# Altium footprint library SparkFun-IC-Microcontroller.PCBLIB: 30 footprints (part 1 of 2)
Each footprint in its own frame and in the unit in brackets; x right, y up, seen from the top. Pads: shape width x height; smd on the part's side, far side on the other; paste and mask are expansions set on the pad; w line width, h text height; cw(c..) or ccw(c..) is an arc to the next point about the centre after c.
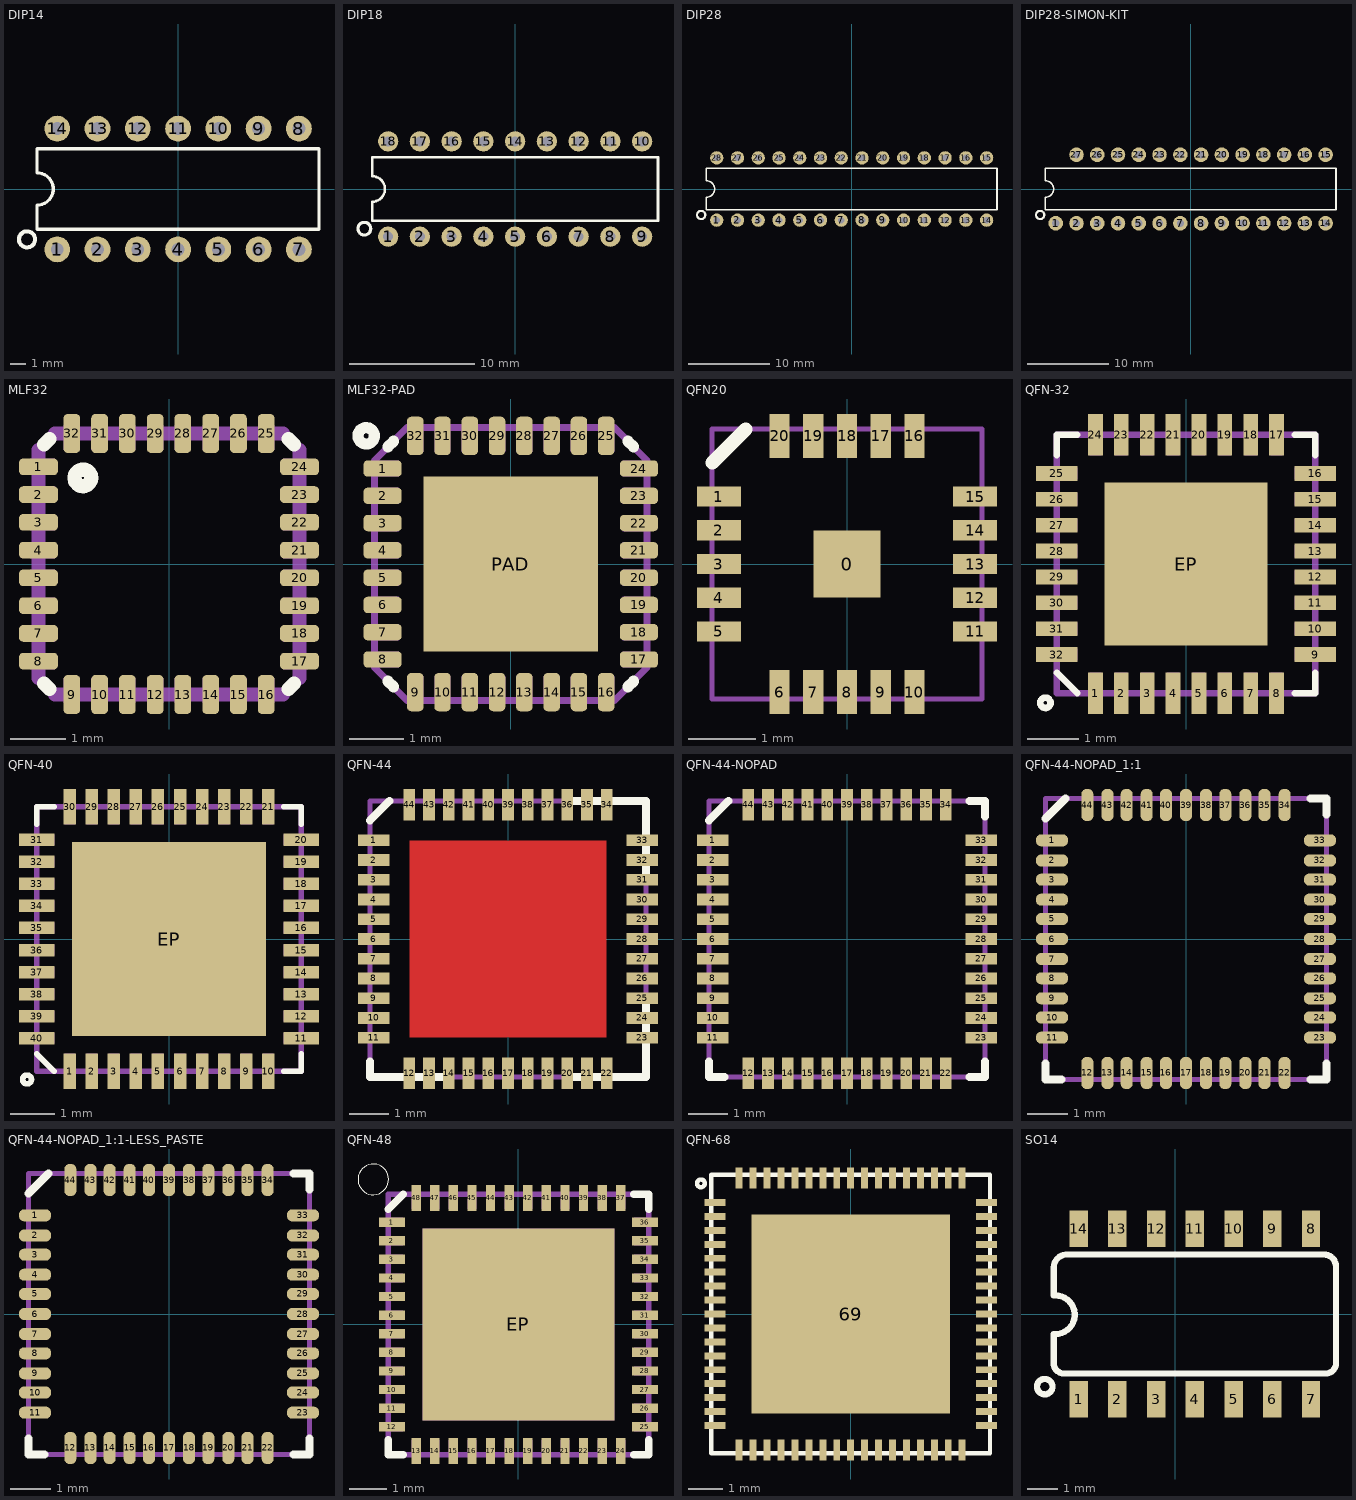
[diagram p0: the footprints below, top view; thin cyan lines are the x and y axes]

## DIP14 [mil]
pads (14):
  round 64 hole 32: 1(-300,-150) 2(-200,-150) 3(-100,-150) 4(0,-150) 5(100,-150) 6(200,-150) 7(300,-150) 8(300,150) 9(200,150) 10(100,150) 11(0,150) 12(-100,150) 13(-200,150) 14(-300,150)
Top Overlay:
  circle w10: c-375,-125 r20
  lines w8: -350,-100 350,-100 350,100 -350,100 -350,40 cw(c-350,0) -350,-40 -350,-100

## DIP18 [mil]
pads (18):
  round 64 hole 32: 1(-400,-150) 2(-300,-150) 3(-200,-150) 4(-100,-150) 5(0,-150) 6(100,-150) 7(200,-150) 8(300,-150) 9(400,-150) 10(400,150) 11(300,150) 12(200,150) 13(100,150) 14(0,150) 15(-100,150) 16(-200,150) 17(-300,150) 18(-400,150)
Top Overlay:
  circle w10: c-475,-125 r20
  lines w8: -450,-100 450,-100 450,100 -450,100 -450,40 cw(c-450,0) -450,-40 -450,-100

## DIP28 [mil]
pads (28):
  round 64 hole 32: 1(-650,-150) 2(-550,-150) 3(-450,-150) 4(-350,-150) 5(-250,-150) 6(-150,-150) 7(-50,-150) 8(50,-150) 9(150,-150) 10(250,-150) 11(350,-150) 12(450,-150) 13(550,-150) 14(650,-150) 15(650,150) 16(550,150) 17(450,150) 18(350,150) 19(250,150) 20(150,150) 21(50,150) 22(-50,150) 23(-150,150) 24(-250,150) 25(-350,150) 26(-450,150) 27(-550,150) 28(-650,150)
Top Overlay:
  circle w10: c-725,-125 r20
  lines w8: -700,-100 700,-100 700,100 -700,100 -700,40 cw(c-700,0) -700,-40 -700,-100

## DIP28-SIMON-KIT [mil]
pads (27):
  round 70 hole 34: 1(-650,-165) 2(-550,-165) 3(-450,-165) 4(-350,-165) 5(-250,-165) 6(-150,-165) 7(-50,-165) 8(50,-165) 9(150,-165) 10(250,-165) 11(350,-165) 12(450,-165) 13(550,-165) 14(650,-165) 15(650,165) 16(550,165) 17(450,165) 18(350,165) 19(250,165) 20(150,165) 21(50,165) 22(-50,165) 23(-150,165) 24(-250,165) 25(-350,165) 26(-450,165) 27(-550,165)
Top Overlay:
  circle w10: c-725,-125 r20
  lines w8: -700,-100 700,-100 700,100 -700,100 -700,40 cw(c-700,0) -700,-40 -700,-100
Top Solder:
  circle w0: c-550,165 r17
  circle w0: c-450,165 r17
  circle w0: c-350,165 r17
  circle w0: c-650,-165 r17
  circle w0: c-550,-165 r17
  circle w0: c-450,-165 r17
  circle w0: c-350,-165 r17
  circle w0: c-250,165 r17
  circle w0: c-150,165 r17
  circle w0: c-50,165 r17
  circle w0: c50,165 r17
  circle w0: c-250,-165 r17
  circle w0: c-150,-165 r17
  circle w0: c-50,-165 r17
  circle w0: c50,-165 r17
  circle w0: c150,165 r17
  circle w0: c250,165 r17
  circle w0: c350,165 r17
  circle w0: c450,165 r17
  circle w0: c150,-165 r17
  circle w0: c250,-165 r17
  circle w0: c350,-165 r17
  circle w0: c450,-165 r17
  circle w0: c550,165 r17
  circle w0: c650,165 r17
  circle w0: c550,-165 r17
  circle w0: c650,-165 r17
Bottom Solder:
  circle w0: c-550,165 r42
  circle w0: c-450,165 r42
  circle w0: c-350,165 r42
  circle w0: c-650,-165 r42
  circle w0: c-550,-165 r42
  circle w0: c-450,-165 r42
  circle w0: c-350,-165 r42
  circle w0: c-250,165 r42
  circle w0: c-150,165 r42
  circle w0: c-50,165 r42
  circle w0: c50,165 r42
  circle w0: c-250,-165 r42
  circle w0: c-150,-165 r42
  circle w0: c-50,-165 r42
  circle w0: c50,-165 r42
  circle w0: c150,165 r42
  circle w0: c250,165 r42
  circle w0: c350,165 r42
  circle w0: c450,165 r42
  circle w0: c150,-165 r42
  circle w0: c250,-165 r42
  circle w0: c350,-165 r42
  circle w0: c450,-165 r42
  circle w0: c550,165 r42
  circle w0: c650,165 r42
  circle w0: c550,-165 r42
  circle w0: c650,-165 r42

## MLF32 [mm]
pads (32):
  rrect50% 0.7x0.3 smd: 1(-2.35,1.75) 2(-2.35,1.25) 3(-2.35,0.75) 4(-2.35,0.25) 5(-2.35,-0.25) 6(-2.35,-0.75) 7(-2.35,-1.25) 8(-2.35,-1.75) 17(2.35,-1.75) 18(2.35,-1.25) 19(2.35,-0.75) 20(2.35,-0.25) 21(2.35,0.25) 22(2.35,0.75) 23(2.35,1.25) 24(2.35,1.75)
  rrect50% 0.3x0.7 smd: 9(-1.75,-2.35) 10(-1.25,-2.35) 11(-0.75,-2.35) 12(-0.25,-2.35) 13(0.25,-2.35) 14(0.75,-2.35) 15(1.25,-2.35) 16(1.75,-2.35) 25(1.75,2.35) 26(1.25,2.35) 27(0.75,2.35) 28(0.25,2.35) 29(-0.25,2.35) 30(-0.75,2.35) 31(-1.25,2.35) 32(-1.75,2.35)
Top Overlay:
  circle w0.254: c-1.55,1.55 r0.15
  lines w0.254: -2.25,-2.15 -2.15,-2.25 ; -2.25,2.15 -2.15,2.25 ; 2.15,-2.25 2.25,-2.15 ; 2.15,2.25 2.25,2.15
Mechanical 16:
  rectangle: -2.5,1.6 -2.05,1.9
  rectangle: -2.5,1.1 -2.05,1.4
  rectangle: -2.5,0.6 -2.05,0.9
  rectangle: -2.5,0.1 -2.05,0.4
  rectangle: -2.5,-0.4 -2.05,-0.1
  rectangle: -2.5,-0.9 -2.05,-0.6
  rectangle: -2.5,-1.4 -2.05,-1.1
  rectangle: -2.5,-1.9 -2.05,-1.6
  rectangle: -1.9,-2.5 -1.6,-2.05
  rectangle: -1.4,-2.5 -1.1,-2.05
  rectangle: -0.9,-2.5 -0.6,-2.05
  rectangle: -0.4,-2.5 -0.1,-2.05
  rectangle: 0.1,-2.5 0.4,-2.05
  rectangle: 0.6,-2.5 0.9,-2.05
  rectangle: 1.1,-2.5 1.4,-2.05
  rectangle: 1.6,-2.5 1.9,-2.05
  rectangle: 2.05,-1.9 2.5,-1.6
  rectangle: 2.05,-1.4 2.5,-1.1
  rectangle: 2.05,-0.9 2.5,-0.6
  rectangle: 2.05,-0.4 2.5,-0.1
  rectangle: 2.05,0.1 2.5,0.4
  rectangle: 2.05,0.6 2.5,0.9
  rectangle: 2.05,1.1 2.5,1.4
  rectangle: 2.05,1.6 2.5,1.9
  rectangle: 1.6,2.05 1.9,2.5
  rectangle: 1.1,2.05 1.4,2.5
  rectangle: 0.6,2.05 0.9,2.5
  rectangle: 0.1,2.05 0.4,2.5
  rectangle: -0.4,2.05 -0.1,2.5
  rectangle: -0.9,2.05 -0.6,2.5
  rectangle: -1.4,2.05 -1.1,2.5
  rectangle: -1.9,2.05 -1.6,2.5
  lines w0.254: -2.35,-2.05 -2.35,2.05 ; -2.05,-2.35 2.05,-2.35 ; -2.05,2.35 2.05,2.35 ; 2.35,-2.05 2.35,2.05

## MLF32-PAD [mm]
pads (33):
  rrect50% 0.7x0.3 smd: 1(-2.35,1.75) 2(-2.35,1.25) 3(-2.35,0.75) 4(-2.35,0.25) 5(-2.35,-0.25) 6(-2.35,-0.75) 7(-2.35,-1.25) 8(-2.35,-1.75) 17(2.35,-1.75) 18(2.35,-1.25) 19(2.35,-0.75) 20(2.35,-0.25) 21(2.35,0.25) 22(2.35,0.75) 23(2.35,1.25) 24(2.35,1.75)
  rrect50% 0.3x0.7 smd: 9(-1.75,-2.35) 10(-1.25,-2.35) 11(-0.75,-2.35) 12(-0.25,-2.35) 13(0.25,-2.35) 14(0.75,-2.35) 15(1.25,-2.35) 16(1.75,-2.35) 25(1.75,2.35) 26(1.25,2.35) 27(0.75,2.35) 28(0.25,2.35) 29(-0.25,2.35) 30(-0.75,2.35) 31(-1.25,2.35) 32(-1.75,2.35)
  rect 3.2x3.2 smd: PAD(0,0)
Top Overlay:
  circle w0.203: c-2.65,2.35 r0.15
  lines w0.203: -2.25,-2.15 -2.15,-2.25 ; -2.25,2.15 -2.15,2.25 ; 2.15,-2.25 2.25,-2.15 ; 2.15,2.25 2.25,2.15
Top Paste:
  rectangle: -1.2,0.25 -0.25,1.2
  rectangle: 0.25,0.25 1.2,1.2
  rectangle: 0.25,-1.2 1.2,-0.25
  rectangle: -1.2,-1.2 -0.25,-0.25
Mechanical 16:
  rectangle: -2.5,1.6 -2.05,1.9
  rectangle: -2.5,1.1 -2.05,1.4
  rectangle: -2.5,0.6 -2.05,0.9
  rectangle: -2.5,0.1 -2.05,0.4
  rectangle: -2.5,-0.4 -2.05,-0.1
  rectangle: -2.5,-0.9 -2.05,-0.6
  rectangle: -2.5,-1.4 -2.05,-1.1
  rectangle: -2.5,-1.9 -2.05,-1.6
  rectangle: -1.9,-2.5 -1.6,-2.05
  rectangle: -1.4,-2.5 -1.1,-2.05
  rectangle: -0.9,-2.5 -0.6,-2.05
  rectangle: -0.4,-2.5 -0.1,-2.05
  rectangle: 0.1,-2.5 0.4,-2.05
  rectangle: 0.6,-2.5 0.9,-2.05
  rectangle: 1.1,-2.5 1.4,-2.05
  rectangle: 1.6,-2.5 1.9,-2.05
  rectangle: 2.05,-1.9 2.5,-1.6
  rectangle: 2.05,-1.4 2.5,-1.1
  rectangle: 2.05,-0.9 2.5,-0.6
  rectangle: 2.05,-0.4 2.5,-0.1
  rectangle: 2.05,0.1 2.5,0.4
  rectangle: 2.05,0.6 2.5,0.9
  rectangle: 2.05,1.1 2.5,1.4
  rectangle: 2.05,1.6 2.5,1.9
  rectangle: 1.6,2.05 1.9,2.5
  rectangle: 1.1,2.05 1.4,2.5
  rectangle: 0.6,2.05 0.9,2.5
  rectangle: 0.1,2.05 0.4,2.5
  rectangle: -0.4,2.05 -0.1,2.5
  rectangle: -0.9,2.05 -0.6,2.5
  rectangle: -1.4,2.05 -1.1,2.5
  rectangle: -1.9,2.05 -1.6,2.5
  lines w0.127: -2.5,-1.9 -1.9,-2.5 1.9,-2.5 2.5,-1.9 2.5,1.9 1.9,2.5 -1.9,2.5 -2.5,1.9 -2.5,-1.9

## QFN20 [mm]
pads (21):
  rect 1x1 smd: 0(0,0)
  rect 0.65x0.3 smd: 1(-1.9,1) 2(-1.9,0.5) 3(-1.9,0) 4(-1.9,-0.5) 5(-1.9,-1) 11(1.9,-1) 12(1.9,-0.5) 13(1.9,0) 14(1.9,0.5) 15(1.9,1)
  rect 0.3x0.65 smd: 6(-1,-1.9) 7(-0.5,-1.9) 8(0,-1.9) 9(0.5,-1.9) 10(1,-1.9) 16(1,1.9) 17(0.5,1.9) 18(0,1.9) 19(-0.5,1.9) 20(-1,1.9)
Top Overlay:
  lines w0.203: -2,1.5 -1.5,2
Top Paste:
  rectangle: -0.25,-0.25 0.25,0.25
  rectangle: -2.095,0.902 -1.613,1.105
  rectangle: -2.095,0.394 -1.613,0.597
  rectangle: -2.095,-0.102 -1.613,0.102
  rectangle: -2.095,-0.597 -1.613,-0.394
  rectangle: -2.095,-1.105 -1.613,-0.902
  rectangle: 1.613,0.902 2.095,1.105
  rectangle: 1.613,0.394 2.095,0.597
  rectangle: 1.613,-0.102 2.095,0.102
  rectangle: 1.613,-0.597 2.095,-0.394
  rectangle: 1.613,-1.105 2.095,-0.902
  region: -0.902,1.613 -0.902,2.095 -1.105,2.095 -1.105,1.613
  region: -0.394,1.613 -0.394,2.095 -0.597,2.095 -0.597,1.613
  region: 0.102,1.613 0.102,2.095 -0.102,2.095 -0.102,1.613
  region: 0.597,1.613 0.597,2.095 0.394,2.095 0.394,1.613
  region: 1.105,1.613 1.105,2.095 0.902,2.095 0.902,1.613
  region: -0.902,-2.095 -0.902,-1.613 -1.105,-1.613 -1.105,-2.095
  region: -0.394,-2.095 -0.394,-1.613 -0.597,-1.613 -0.597,-2.095
  region: 0.102,-2.095 0.102,-1.613 -0.102,-1.613 -0.102,-2.095
  region: 0.597,-2.095 0.597,-1.613 0.394,-1.613 0.394,-2.095
  region: 1.105,-2.095 1.105,-1.613 0.902,-1.613 0.902,-2.095
Mechanical 16:
  lines w0.076: -2,-2 2,-2 2,2 -2,2 -2,-2

## QFN-32 [mil]
pads (33):
  rect 11.2x31.5 smd: 1(-68.9,-98.43) 2(-49.21,-98.43) 3(-29.53,-98.43) 4(-9.84,-98.43) 5(9.84,-98.43) 6(29.53,-98.43) 7(49.21,-98.43) 8(68.9,-98.43) 17(68.9,98.43) 18(49.21,98.43) 19(29.53,98.43) 20(9.84,98.43) 21(-9.84,98.43) 22(-29.53,98.43) 23(-49.21,98.43) 24(-68.9,98.43)
  rect 31.5x11.2 smd: 9(98.43,-68.9) 10(98.43,-49.21) 11(98.43,-29.53) 12(98.43,-9.84) 13(98.43,9.84) 14(98.43,29.53) 15(98.43,49.21) 16(98.43,68.9) 25(-98.43,68.9) 26(-98.43,49.21) 27(-98.43,29.53) 28(-98.43,9.84) 29(-98.43,-9.84) 30(-98.43,-29.53) 31(-98.43,-49.21) 32(-98.43,-68.9)
  rect 124.02x124.02 smd: EP(0,0)
Top Overlay:
  circle w5: c-107,-105.66 r3.94
  lines w5: -98.43,-82.68 -82.68,-98.43 ; -98.43,82.68 -98.43,98.43 -82.68,98.43 ; 82.68,-98.43 98.43,-98.43 98.43,-82.68 ; 82.68,98.43 98.43,98.43 98.43,82.68
Top Paste:
  rectangle: -57.09,5.91 -5.91,57.09
  region: 5.91,57.09 5.91,5.91 57.09,5.91 57.09,57.09
  region: -5.91,-57.09 -5.91,-5.91 -57.09,-5.91 -57.09,-57.09
  region: 57.09,-5.91 5.91,-5.91 5.91,-57.09 57.09,-57.09
Mechanical 16:
  rectangle: -98.43,5.12 -82.68,14.57
  rectangle: -98.43,-14.57 -82.68,-5.12
  rectangle: -98.43,-34.25 -82.68,-24.8
  rectangle: -98.43,-53.94 -82.68,-44.49
  rectangle: -98.43,-73.62 -82.68,-64.17
  rectangle: -98.43,24.8 -82.68,34.25
  rectangle: -98.43,44.49 -82.68,53.94
  rectangle: -98.43,64.17 -82.68,73.62
  region: 5.12,98.43 5.12,82.68 14.57,82.68 14.57,98.43
  region: -14.57,98.43 -14.57,82.68 -5.12,82.68 -5.12,98.43
  region: -34.25,98.43 -34.25,82.68 -24.8,82.68 -24.8,98.43
  region: -53.94,98.43 -53.94,82.68 -44.49,82.68 -44.49,98.43
  region: -73.62,98.43 -73.62,82.68 -64.17,82.68 -64.17,98.43
  region: 24.8,98.43 24.8,82.68 34.25,82.68 34.25,98.43
  region: 44.49,98.43 44.49,82.68 53.94,82.68 53.94,98.43
  region: 64.17,98.43 64.17,82.68 73.62,82.68 73.62,98.43
  region: -5.12,-98.43 -5.12,-82.68 -14.57,-82.68 -14.57,-98.43
  region: 14.57,-98.43 14.57,-82.68 5.12,-82.68 5.12,-98.43
  region: 34.25,-98.43 34.25,-82.68 24.8,-82.68 24.8,-98.43
  region: 53.94,-98.43 53.94,-82.68 44.49,-82.68 44.49,-98.43
  region: 73.62,-98.43 73.62,-82.68 64.17,-82.68 64.17,-98.43
  region: -24.8,-98.43 -24.8,-82.68 -34.25,-82.68 -34.25,-98.43
  region: -44.49,-98.43 -44.49,-82.68 -53.94,-82.68 -53.94,-98.43
  region: -64.17,-98.43 -64.17,-82.68 -73.62,-82.68 -73.62,-98.43
  region: 98.43,-5.12 82.68,-5.12 82.68,-14.57 98.43,-14.57
  region: 98.43,14.57 82.68,14.57 82.68,5.12 98.43,5.12
  region: 98.43,34.25 82.68,34.25 82.68,24.8 98.43,24.8
  region: 98.43,53.94 82.68,53.94 82.68,44.49 98.43,44.49
  region: 98.43,73.62 82.68,73.62 82.68,64.17 98.43,64.17
  region: 98.43,-24.8 82.68,-24.8 82.68,-34.25 98.43,-34.25
  region: 98.43,-44.49 82.68,-44.49 82.68,-53.94 98.43,-53.94
  region: 98.43,-64.17 82.68,-64.17 82.68,-73.62 98.43,-73.62
  lines w5: -98.43,-98.43 98.43,-98.43 98.43,98.43 -98.43,98.43 -98.43,-98.43

## QFN-40 [mm]
pads (41):
  rect 0.284x0.8 smd: 1(-2.25,-3) 2(-1.75,-3) 3(-1.25,-3) 4(-0.75,-3) 5(-0.25,-3) 6(0.25,-3) 7(0.75,-3) 8(1.25,-3) 9(1.75,-3) 10(2.25,-3) 21(2.25,3) 22(1.75,3) 23(1.25,3) 24(0.75,3) 25(0.25,3) 26(-0.25,3) 27(-0.75,3) 28(-1.25,3) 29(-1.75,3) 30(-2.25,3)
  rect 0.8x0.284 smd: 11(3,-2.25) 12(3,-1.75) 13(3,-1.25) 14(3,-0.75) 15(3,-0.25) 16(3,0.25) 17(3,0.75) 18(3,1.25) 19(3,1.75) 20(3,2.25) 31(-3,2.25) 32(-3,1.75) 33(-3,1.25) 34(-3,0.75) 35(-3,0.25) 36(-3,-0.25) 37(-3,-0.75) 38(-3,-1.25) 39(-3,-1.75) 40(-3,-2.25)
  rect 4.4x4.4 smd: EP(0,0)
Top Overlay:
  circle w0.127: c-3.218,-3.184 r0.1
  lines w0.127: -3,-2.6 -2.6,-3 ; -3,2.6 -3,3 -2.6,3 ; 2.6,-3 3,-3 3,-2.6 ; 2.6,3 3,3 3,2.6
Top Paste:
  circle w0: c0.85,0.85 r0.762
  circle w0: c-0.85,0.85 r0.762
  circle w0: c-0.85,-0.85 r0.762
  circle w0: c0.85,-0.85 r0.762
  rectangle: -2.368,-3.342 -2.139,-2.796
  rectangle: -1.867,-3.342 -1.639,-2.796
  rectangle: -1.368,-3.342 -1.139,-2.796
  rectangle: -0.867,-3.342 -0.639,-2.796
  rectangle: -0.368,-3.342 -0.139,-2.796
  rectangle: 0.133,-3.342 0.361,-2.796
  rectangle: 0.632,-3.342 0.861,-2.796
  rectangle: 1.133,-3.342 1.361,-2.796
  rectangle: 1.632,-3.342 1.861,-2.796
  rectangle: 2.133,-3.342 2.361,-2.796
  region: 3.342,-2.368 3.342,-2.139 2.796,-2.139 2.796,-2.368
  region: 3.342,-1.867 3.342,-1.639 2.796,-1.639 2.796,-1.867
  region: 3.342,-1.368 3.342,-1.139 2.796,-1.139 2.796,-1.368
  region: 3.342,-0.867 3.342,-0.639 2.796,-0.639 2.796,-0.867
  region: 3.342,-0.368 3.342,-0.139 2.796,-0.139 2.796,-0.368
  region: 3.342,0.133 3.342,0.361 2.796,0.361 2.796,0.133
  region: 3.342,0.632 3.342,0.861 2.796,0.861 2.796,0.632
  region: 3.342,1.133 3.342,1.361 2.796,1.361 2.796,1.133
  region: 3.342,1.632 3.342,1.861 2.796,1.861 2.796,1.632
  region: 3.342,2.133 3.342,2.361 2.796,2.361 2.796,2.133
  region: 2.368,3.342 2.139,3.342 2.139,2.796 2.368,2.796
  region: 1.867,3.342 1.639,3.342 1.639,2.796 1.867,2.796
  region: 1.368,3.342 1.139,3.342 1.139,2.796 1.368,2.796
  region: 0.867,3.342 0.639,3.342 0.639,2.796 0.867,2.796
  region: 0.368,3.342 0.139,3.342 0.139,2.796 0.368,2.796
  region: -0.133,3.342 -0.361,3.342 -0.361,2.796 -0.133,2.796
  region: -0.632,3.342 -0.861,3.342 -0.861,2.796 -0.632,2.796
  region: -1.133,3.342 -1.361,3.342 -1.361,2.796 -1.133,2.796
  region: -1.632,3.342 -1.861,3.342 -1.861,2.796 -1.632,2.796
  region: -2.133,3.342 -2.361,3.342 -2.361,2.796 -2.133,2.796
  region: -3.342,2.368 -3.342,2.139 -2.796,2.139 -2.796,2.368
  region: -3.342,1.867 -3.342,1.639 -2.796,1.639 -2.796,1.867
  region: -3.342,1.368 -3.342,1.139 -2.796,1.139 -2.796,1.368
  region: -3.342,0.867 -3.342,0.639 -2.796,0.639 -2.796,0.867
  region: -3.342,0.368 -3.342,0.139 -2.796,0.139 -2.796,0.368
  region: -3.342,-0.133 -3.342,-0.361 -2.796,-0.361 -2.796,-0.133
  region: -3.342,-0.632 -3.342,-0.861 -2.796,-0.861 -2.796,-0.632
  region: -3.342,-1.133 -3.342,-1.361 -2.796,-1.361 -2.796,-1.133
  region: -3.342,-1.632 -3.342,-1.861 -2.796,-1.861 -2.796,-1.632
  region: -3.342,-2.133 -3.342,-2.361 -2.796,-2.361 -2.796,-2.133
Mechanical 16:
  rectangle: -3,-0.37 -2.6,-0.13
  rectangle: -3,-0.87 -2.6,-0.63
  rectangle: -3,-1.37 -2.6,-1.13
  rectangle: -3,-1.87 -2.6,-1.63
  rectangle: -3,-2.37 -2.6,-2.13
  rectangle: -3,0.13 -2.6,0.37
  rectangle: -3,0.63 -2.6,0.87
  rectangle: -3,1.13 -2.6,1.37
  region: -0.37,3 -0.37,2.6 -0.13,2.6 -0.13,3
  region: -0.87,3 -0.87,2.6 -0.63,2.6 -0.63,3
  region: -1.37,3 -1.37,2.6 -1.13,2.6 -1.13,3
  region: -1.87,3 -1.87,2.6 -1.63,2.6 -1.63,3
  region: -2.37,3 -2.37,2.6 -2.13,2.6 -2.13,3
  region: 0.13,3 0.13,2.6 0.37,2.6 0.37,3
  region: 0.63,3 0.63,2.6 0.87,2.6 0.87,3
  region: 1.13,3 1.13,2.6 1.37,2.6 1.37,3
  region: 0.37,-3 0.37,-2.6 0.13,-2.6 0.13,-3
  region: 0.87,-3 0.87,-2.6 0.63,-2.6 0.63,-3
  region: 1.37,-3 1.37,-2.6 1.13,-2.6 1.13,-3
  region: 1.87,-3 1.87,-2.6 1.63,-2.6 1.63,-3
  region: 2.37,-3 2.37,-2.6 2.13,-2.6 2.13,-3
  region: -0.13,-3 -0.13,-2.6 -0.37,-2.6 -0.37,-3
  region: -0.63,-3 -0.63,-2.6 -0.87,-2.6 -0.87,-3
  region: -1.13,-3 -1.13,-2.6 -1.37,-2.6 -1.37,-3
  region: 1.63,3 1.63,2.6 1.87,2.6 1.87,3
  region: -1.87,-2.6 -1.87,-3 -1.63,-3 -1.63,-2.6
  region: -2.37,-2.6 -2.37,-3 -2.13,-3 -2.13,-2.6
  region: 3,-1.63 2.6,-1.63 2.6,-1.87 3,-1.87
  region: 3,-1.13 2.6,-1.13 2.6,-1.37 3,-1.37
  region: 2.13,3 2.13,2.6 2.37,2.6 2.37,3
  region: -2.6,1.87 -3,1.87 -3,1.63 -2.6,1.63
  region: 3,-2.13 2.6,-2.13 2.6,-2.37 3,-2.37
  region: 3,0.37 2.6,0.37 2.6,0.13 3,0.13
  region: 3,0.87 2.6,0.87 2.6,0.63 3,0.63
  region: 3,1.37 2.6,1.37 2.6,1.13 3,1.13
  region: 3,1.87 2.6,1.87 2.6,1.63 3,1.63
  region: 3,2.37 2.6,2.37 2.6,2.13 3,2.13
  region: 3,-0.13 2.6,-0.13 2.6,-0.37 3,-0.37
  region: 3,-0.63 2.6,-0.63 2.6,-0.87 3,-0.87
  region: -2.6,2.37 -3,2.37 -3,2.13 -2.6,2.13
  lines w0.127: -3,-3 3,-3 3,3 -3,3 -3,-3

## QFN-44 [mil]
pads (44):
  rect 31.5x11.81 smd: 1(-133.86,98.43) 2(-133.86,78.74) 3(-133.86,59.06) 4(-133.86,39.37) 5(-133.86,19.69) 6(-133.86,0) 7(-133.86,-19.69) 8(-133.86,-39.37) 9(-133.86,-59.06) 10(-133.86,-78.74) 11(-133.86,-98.43) 23(133.86,-98.43) 24(133.86,-78.74) 25(133.86,-59.06) 26(133.86,-39.37) 27(133.86,-19.69) 28(133.86,0) 29(133.86,19.69) 30(133.86,39.37) 31(133.86,59.06) 32(133.86,78.74) 33(133.86,98.43)
  rect 11.81x31.5 smd: 12(-98.43,-133.86) 13(-78.74,-133.86) 14(-59.06,-133.86) 15(-39.37,-133.86) 16(-19.69,-133.86) 17(0,-133.86) 18(19.69,-133.86) 19(39.37,-133.86) 20(59.06,-133.86) 21(78.74,-133.86) 22(98.43,-133.86) 34(98.43,133.86) 35(78.74,133.86) 36(59.06,133.86) 37(39.37,133.86) 38(19.69,133.86) 39(0,133.86) 40(-19.69,133.86) 41(-39.37,133.86) 42(-59.06,133.86) 43(-78.74,133.86) 44(-98.43,133.86)
Top Layer:
  rectangle: -98.43,-98.43 98.43,98.43
Top Overlay:
  lines w8: -137.8,-122.05 -137.8,-137.8 -64.96,-137.8 ; -137.8,118.11 -118.11,137.8 ; 64.96,-137.8 137.8,-137.8 137.8,-64.96 ; 64.96,137.8 137.8,137.8 137.8,64.96
Top Solder:
  rectangle: -19.69,-19.69 19.69,19.69
Mechanical 16:
  lines w5: -137.8,-137.8 -137.8,137.8 137.8,137.8 137.8,-137.8 -133.86,-137.8

## QFN-44-NOPAD [mil]
pads (44):
  rect 31.5x11.81 smd: 1(-133.86,98.43) 2(-133.86,78.74) 3(-133.86,59.06) 4(-133.86,39.37) 5(-133.86,19.69) 6(-133.86,0) 7(-133.86,-19.69) 8(-133.86,-39.37) 9(-133.86,-59.06) 10(-133.86,-78.74) 11(-133.86,-98.43) 23(133.86,-98.43) 24(133.86,-78.74) 25(133.86,-59.06) 26(133.86,-39.37) 27(133.86,-19.69) 28(133.86,0) 29(133.86,19.69) 30(133.86,39.37) 31(133.86,59.06) 32(133.86,78.74) 33(133.86,98.43)
  rect 11.81x31.5 smd: 12(-98.43,-133.86) 13(-78.74,-133.86) 14(-59.06,-133.86) 15(-39.37,-133.86) 16(-19.69,-133.86) 17(0,-133.86) 18(19.69,-133.86) 19(39.37,-133.86) 20(59.06,-133.86) 21(78.74,-133.86) 22(98.43,-133.86) 34(98.43,133.86) 35(78.74,133.86) 36(59.06,133.86) 37(39.37,133.86) 38(19.69,133.86) 39(0,133.86) 40(-19.69,133.86) 41(-39.37,133.86) 42(-59.06,133.86) 43(-78.74,133.86) 44(-98.43,133.86)
Top Overlay:
  lines w8: -137.8,-122.05 -137.8,-137.8 -122.05,-137.8 ; -137.8,118.11 -118.11,137.8 ; 122.05,-137.8 137.8,-137.8 137.8,-122.05 ; 122.05,137.8 137.8,137.8 137.8,122.05
Mechanical 16:
  lines w5: -137.8,-137.8 -137.8,137.8 137.8,137.8 137.8,-137.8 -133.86,-137.8

## QFN-44-NOPAD_1:1 [mil]
pads (44):
  rrect85% 31.5x11.81 smd: 1(-131.36,96.76) 2(-131.36,77.08) 3(-131.36,58.22) 4(-131.36,38.54) 5(-131.36,19.69) 6(-131.36,0) 7(-131.36,-19.69) 8(-131.36,-38.54) 9(-131.36,-58.22) 10(-131.36,-77.08) 11(-131.36,-96.76) 23(131.36,-96.76) 24(131.36,-77.08) 25(131.36,-58.22) 26(131.36,-38.54) 27(131.36,-19.69) 28(131.36,0) 29(131.36,19.69) 30(131.36,38.54) 31(131.36,58.22) 32(131.36,77.08) 33(131.36,96.76)
  rrect85% 11.81x31.5 smd: 12(-96.76,-131.36) 13(-77.08,-131.36) 14(-58.22,-131.36) 15(-38.54,-131.36) 16(-19.69,-131.36) 17(0,-131.36) 18(19.69,-131.36) 19(38.54,-131.36) 20(58.22,-131.36) 21(77.08,-131.36) 22(96.76,-131.36) 34(96.76,131.36) 35(77.08,131.36) 36(58.22,131.36) 37(38.54,131.36) 38(19.69,131.36) 39(0,131.36) 40(-19.69,131.36) 41(-38.54,131.36) 42(-58.22,131.36) 43(-77.08,131.36) 44(-96.76,131.36)
Top Overlay:
  lines w8: -137.8,-122.05 -137.8,-137.8 -122.05,-137.8 ; -137.8,118.11 -118.11,137.8 ; 122.05,-137.8 137.8,-137.8 137.8,-122.05 ; 122.05,137.8 137.8,137.8 137.8,122.05
Mechanical 16:
  lines w5: -137.8,-137.8 -137.8,137.8 137.8,137.8 137.8,-137.8 -133.86,-137.8

## QFN-44-NOPAD_1:1-LESS_PASTE [mil]
pads (44):
  rrect85% 31.5x11.81 smd: 1(-131.36,96.76) 2(-131.36,77.08) 3(-131.36,58.22) 4(-131.36,38.54) 5(-131.36,19.69) 6(-131.36,0) 7(-131.36,-19.69) 8(-131.36,-38.54) 9(-131.36,-58.22) 10(-131.36,-77.08) 11(-131.36,-96.76) 23(131.36,-96.76) 24(131.36,-77.08) 25(131.36,-58.22) 26(131.36,-38.54) 27(131.36,-19.69) 28(131.36,0) 29(131.36,19.69) 30(131.36,38.54) 31(131.36,58.22) 32(131.36,77.08) 33(131.36,96.76)
  rrect85% 11.81x31.5 smd: 12(-96.76,-131.36) 13(-77.08,-131.36) 14(-58.22,-131.36) 15(-38.54,-131.36) 16(-19.69,-131.36) 17(0,-131.36) 18(19.69,-131.36) 19(38.54,-131.36) 20(58.22,-131.36) 21(77.08,-131.36) 22(96.76,-131.36) 34(96.76,131.36) 35(77.08,131.36) 36(58.22,131.36) 37(38.54,131.36) 38(19.69,131.36) 39(0,131.36) 40(-19.69,131.36) 41(-38.54,131.36) 42(-58.22,131.36) 43(-77.08,131.36) 44(-96.76,131.36)
Top Overlay:
  lines w8: -137.8,-122.05 -137.8,-137.8 -122.05,-137.8 ; -137.8,118.11 -118.11,137.8 ; 122.05,-137.8 137.8,-137.8 137.8,-122.05 ; 122.05,137.8 137.8,137.8 137.8,122.05
Top Paste:
  rectangle: -101.25,124 -92.25,145.5
  rectangle: -81.5,124 -72.5,145.5
  rectangle: -62.75,124 -53.75,145.5
  rectangle: -43,124 -34,145.5
  rectangle: -24.25,124 -15.25,145.5
  rectangle: -4.5,124 4.5,145.5
  rectangle: 15.25,124 24.25,145.5
  rectangle: 34,124 43,145.5
  rectangle: 53.75,124 62.75,145.5
  rectangle: 72.5,124 81.5,145.5
  rectangle: 92.25,124 101.25,145.5
  region: -124,-101.25 -124,-92.25 -145.5,-92.25 -145.5,-101.25
  region: -124,-81.5 -124,-72.5 -145.5,-72.5 -145.5,-81.5
  region: -124,-62.75 -124,-53.75 -145.5,-53.75 -145.5,-62.75
  region: -124,-43 -124,-34 -145.5,-34 -145.5,-43
  region: -124,-24.25 -124,-15.25 -145.5,-15.25 -145.5,-24.25
  region: -124,-4.5 -124,4.5 -145.5,4.5 -145.5,-4.5
  region: -124,15.25 -124,24.25 -145.5,24.25 -145.5,15.25
  region: -124,34 -124,43 -145.5,43 -145.5,34
  region: -124,53.75 -124,62.75 -145.5,62.75 -145.5,53.75
  region: -124,72.5 -124,81.5 -145.5,81.5 -145.5,72.5
  region: -124,92.25 -124,101.25 -145.5,101.25 -145.5,92.25
  region: 124,101.25 124,92.25 145.5,92.25 145.5,101.25
  region: 124,81.5 124,72.5 145.5,72.5 145.5,81.5
  region: 124,62.75 124,53.75 145.5,53.75 145.5,62.75
  region: 124,43 124,34 145.5,34 145.5,43
  region: 124,24.25 124,15.25 145.5,15.25 145.5,24.25
  region: 124,4.5 124,-4.5 145.5,-4.5 145.5,4.5
  region: 124,-15.25 124,-24.25 145.5,-24.25 145.5,-15.25
  region: 124,-34 124,-43 145.5,-43 145.5,-34
  region: 124,-53.75 124,-62.75 145.5,-62.75 145.5,-53.75
  region: 124,-72.5 124,-81.5 145.5,-81.5 145.5,-72.5
  region: 124,-92.25 124,-101.25 145.5,-101.25 145.5,-92.25
  region: 101.25,-124 92.25,-124 92.25,-145.5 101.25,-145.5
  region: 81.5,-124 72.5,-124 72.5,-145.5 81.5,-145.5
  region: 62.75,-124 53.75,-124 53.75,-145.5 62.75,-145.5
  region: 43,-124 34,-124 34,-145.5 43,-145.5
  region: 24.25,-124 15.25,-124 15.25,-145.5 24.25,-145.5
  region: 4.5,-124 -4.5,-124 -4.5,-145.5 4.5,-145.5
  region: -15.25,-124 -24.25,-124 -24.25,-145.5 -15.25,-145.5
  region: -34,-124 -43,-124 -43,-145.5 -34,-145.5
  region: -53.75,-124 -62.75,-124 -62.75,-145.5 -53.75,-145.5
  region: -72.5,-124 -81.5,-124 -81.5,-145.5 -72.5,-145.5
  region: -92.25,-124 -101.25,-124 -101.25,-145.5 -92.25,-145.5
Mechanical 16:
  lines w5: -137.8,-137.8 -137.8,137.8 137.8,137.8 137.8,-137.8 -133.86,-137.8

## QFN-48 [mm]
pads (49):
  rect 0.7x0.25 smd: 1(-3.4,2.75) 2(-3.4,2.25) 3(-3.4,1.75) 4(-3.4,1.25) 5(-3.4,0.75) 6(-3.4,0.25) 7(-3.4,-0.25) 8(-3.4,-0.75) 9(-3.4,-1.25) 10(-3.4,-1.75) 11(-3.4,-2.25) 12(-3.4,-2.75) 25(3.4,-2.75) 26(3.4,-2.25) 27(3.4,-1.75) 28(3.4,-1.25) 29(3.4,-0.75) 30(3.4,-0.25) 31(3.4,0.25) 32(3.4,0.75) 33(3.4,1.25) 34(3.4,1.75) 35(3.4,2.25) 36(3.4,2.75)
  rect 0.25x0.7 smd: 13(-2.75,-3.4) 14(-2.25,-3.4) 15(-1.75,-3.4) 16(-1.25,-3.4) 17(-0.75,-3.4) 18(-0.25,-3.4) 19(0.25,-3.4) 20(0.75,-3.4) 21(1.25,-3.4) 22(1.75,-3.4) 23(2.25,-3.4) 24(2.75,-3.4) 37(2.75,3.4) 38(2.25,3.4) 39(1.75,3.4) 40(1.25,3.4) 41(0.75,3.4) 42(0.25,3.4) 43(-0.25,3.4) 44(-0.75,3.4) 45(-1.25,3.4) 46(-1.75,3.4) 47(-2.25,3.4) 48(-2.75,3.4)
  rect 5.15x5.15 smd: EP(0,0)
Top Overlay:
  circle w0: c-3.9,3.9 r0.412
  lines w0.203: -3.5,-3.1 -3.5,-3.5 -3.1,-3.5 ; -3.5,3.1 -3.1,3.5 ; 3.1,-3.5 3.5,-3.5 3.5,-3.1 ; 3.1,3.5 3.5,3.5 3.5,3.1
Mechanical 16:
  rectangle: -3.5,0.125 -3.1,0.375
  rectangle: -2.575,-2.575 2.575,2.575
  rectangle: -3.5,0.625 -3.1,0.875
  rectangle: -3.5,1.125 -3.1,1.375
  rectangle: -3.5,1.625 -3.1,1.875
  rectangle: -3.5,2.125 -3.1,2.375
  rectangle: -3.5,2.625 -3.1,2.875
  rectangle: -3.5,-0.375 -3.1,-0.125
  rectangle: -3.5,-0.875 -3.1,-0.625
  rectangle: -3.5,-1.375 -3.1,-1.125
  rectangle: -3.5,-1.875 -3.1,-1.625
  rectangle: -3.5,-2.375 -3.1,-2.125
  rectangle: -3.5,-2.875 -3.1,-2.625
  region: -0.125,-3.5 -0.125,-3.1 -0.375,-3.1 -0.375,-3.5
  region: -0.625,-3.5 -0.625,-3.1 -0.875,-3.1 -0.875,-3.5
  region: -1.125,-3.5 -1.125,-3.1 -1.375,-3.1 -1.375,-3.5
  region: -1.625,-3.5 -1.625,-3.1 -1.875,-3.1 -1.875,-3.5
  region: -2.125,-3.5 -2.125,-3.1 -2.375,-3.1 -2.375,-3.5
  region: -2.625,-3.5 -2.625,-3.1 -2.875,-3.1 -2.875,-3.5
  region: 0.375,-3.5 0.375,-3.1 0.125,-3.1 0.125,-3.5
  region: 0.875,-3.5 0.875,-3.1 0.625,-3.1 0.625,-3.5
  region: 1.375,-3.5 1.375,-3.1 1.125,-3.1 1.125,-3.5
  region: 1.875,-3.5 1.875,-3.1 1.625,-3.1 1.625,-3.5
  region: 2.375,-3.5 2.375,-3.1 2.125,-3.1 2.125,-3.5
  region: 2.875,-3.5 2.875,-3.1 2.625,-3.1 2.625,-3.5
  region: 3.5,-0.125 3.1,-0.125 3.1,-0.375 3.5,-0.375
  region: 3.5,-0.625 3.1,-0.625 3.1,-0.875 3.5,-0.875
  region: 3.5,-1.125 3.1,-1.125 3.1,-1.375 3.5,-1.375
  region: 3.5,-1.625 3.1,-1.625 3.1,-1.875 3.5,-1.875
  region: 3.5,-2.125 3.1,-2.125 3.1,-2.375 3.5,-2.375
  region: 3.5,-2.625 3.1,-2.625 3.1,-2.875 3.5,-2.875
  region: 3.5,0.375 3.1,0.375 3.1,0.125 3.5,0.125
  region: 3.5,0.875 3.1,0.875 3.1,0.625 3.5,0.625
  region: 3.5,1.375 3.1,1.375 3.1,1.125 3.5,1.125
  region: 3.5,1.875 3.1,1.875 3.1,1.625 3.5,1.625
  region: 3.5,2.375 3.1,2.375 3.1,2.125 3.5,2.125
  region: 3.5,2.875 3.1,2.875 3.1,2.625 3.5,2.625
  region: 0.125,3.5 0.125,3.1 0.375,3.1 0.375,3.5
  region: 0.625,3.5 0.625,3.1 0.875,3.1 0.875,3.5
  region: 1.125,3.5 1.125,3.1 1.375,3.1 1.375,3.5
  region: 1.625,3.5 1.625,3.1 1.875,3.1 1.875,3.5
  region: 2.125,3.5 2.125,3.1 2.375,3.1 2.375,3.5
  region: 2.625,3.5 2.625,3.1 2.875,3.1 2.875,3.5
  region: -0.375,3.5 -0.375,3.1 -0.125,3.1 -0.125,3.5
  region: -0.875,3.5 -0.875,3.1 -0.625,3.1 -0.625,3.5
  region: -1.375,3.5 -1.375,3.1 -1.125,3.1 -1.125,3.5
  region: -1.875,3.5 -1.875,3.1 -1.625,3.1 -1.625,3.5
  region: -2.375,3.5 -2.375,3.1 -2.125,3.1 -2.125,3.5
  region: -2.875,3.5 -2.875,3.1 -2.625,3.1 -2.625,3.5
  lines w0.152: -3.5,-3.5 3.5,-3.5 3.5,3.5 -3.5,3.5 -3.5,-3.5

## QFN-68 [mm]
pads (69):
  rect 0.6x0.2 smd: 1(-3.9,3.2) 2(-3.9,2.8) 3(-3.9,2.4) 4(-3.9,2) 5(-3.9,1.6) 6(-3.9,1.2) 7(-3.9,0.8) 8(-3.9,0.4) 9(-3.9,0) 10(-3.9,-0.4) 11(-3.9,-0.8) 12(-3.9,-1.2) 13(-3.9,-1.6) 14(-3.9,-2) 15(-3.9,-2.4) 16(-3.9,-2.8) 17(-3.9,-3.2) 35(3.9,-3.2) 36(3.9,-2.8) 37(3.9,-2.4) 38(3.9,-2) 39(3.9,-1.6) 40(3.9,-1.2) 41(3.9,-0.8) 42(3.9,-0.4) 43(3.9,0) 44(3.9,0.4) 45(3.9,0.8) 46(3.9,1.2) 47(3.9,1.6) 48(3.9,2) 49(3.9,2.4) 50(3.9,2.8) 51(3.9,3.2)
  rect 0.2x0.6 smd: 18(-3.2,-3.9) 19(-2.8,-3.9) 20(-2.4,-3.9) 21(-2,-3.9) 22(-1.6,-3.9) 23(-1.2,-3.9) 24(-0.8,-3.9) 25(-0.4,-3.9) 26(0,-3.9) 27(0.4,-3.9) 28(0.8,-3.9) 29(1.2,-3.9) 30(1.6,-3.9) 31(2,-3.9) 32(2.4,-3.9) 33(2.8,-3.9) 34(3.2,-3.9) 52(3.2,3.9) 53(2.8,3.9) 54(2.4,3.9) 55(2,3.9) 56(1.6,3.9) 57(1.2,3.9) 58(0.8,3.9) 59(0.4,3.9) 60(0,3.9) 61(-0.4,3.9) 62(-0.8,3.9) 63(-1.2,3.9) 64(-1.6,3.9) 65(-2,3.9) 66(-2.4,3.9) 67(-2.8,3.9) 68(-3.2,3.9)
  rect 5.7x5.7 smd: 69(0,0)
Top Overlay:
  circle w0.127: c-4.3,3.75 r0.112
  lines w0.127: -4,-4 4,-4 4,4 -4,4 -4,-4
Top Paste:
  rectangle: -0.5,1.5 0.5,2.5
  rectangle: -0.5,-0.5 0.5,0.5
  rectangle: -0.5,-2.5 0.5,-1.5
  rectangle: 1.5,-0.5 2.5,0.5
  rectangle: -2.5,-0.5 -1.5,0.5

## SO14 [mm]
pads (14):
  rect 0.6x1.2 smd: 1(-3.175,-2.8) 2(-1.905,-2.8) 3(-0.635,-2.8) 4(0.635,-2.8) 5(1.905,-2.8) 6(3.175,-2.8) 7(4.445,-2.8) 8(4.445,2.8) 9(3.175,2.8) 10(1.905,2.8) 11(0.635,2.8) 12(-0.635,2.8) 13(-1.905,2.8) 14(-3.175,2.8)
Top Overlay:
  circle w0.203: c-4.286,-2.381 r0.254
  lines w0.203: -3.988,-0.66 -3.988,-1.665 ccw(c-3.657,-1.616) -3.607,-1.946 4.977,-1.946 ccw(c4.927,-1.615) 5.258,-1.565 5.258,1.565 ccw(c4.877,1.566) 4.877,1.946 -3.607,1.946 ccw(c-3.557,1.515) -3.988,1.465 ; -3.988,0.61 -3.988,1.453 ; -3.937,-0.66 ccw(c-3.937,-0.025) -3.937,0.61
Mechanical 16:
  rectangle: -3.429,-3.302 -2.921,-2.273
  rectangle: -2.159,-3.302 -1.651,-2.273
  rectangle: -0.889,-3.302 -0.381,-2.273
  rectangle: 0.381,-3.302 0.889,-2.273
  rectangle: 1.651,-3.302 2.159,-2.273
  rectangle: 2.921,-3.302 3.429,-2.273
  rectangle: 4.191,-3.302 4.699,-2.273
  rectangle: -2.159,2.286 -1.651,3.302
  rectangle: -0.889,2.286 -0.381,3.302
  rectangle: 0.381,2.286 0.889,3.302
  rectangle: 1.651,2.286 2.159,3.302
  rectangle: 2.921,2.286 3.429,3.302
  rectangle: 4.191,2.286 4.699,3.302
  rectangle: -3.429,2.286 -2.921,3.302